# EAGLE library part PSOC5LP (library kanzi)
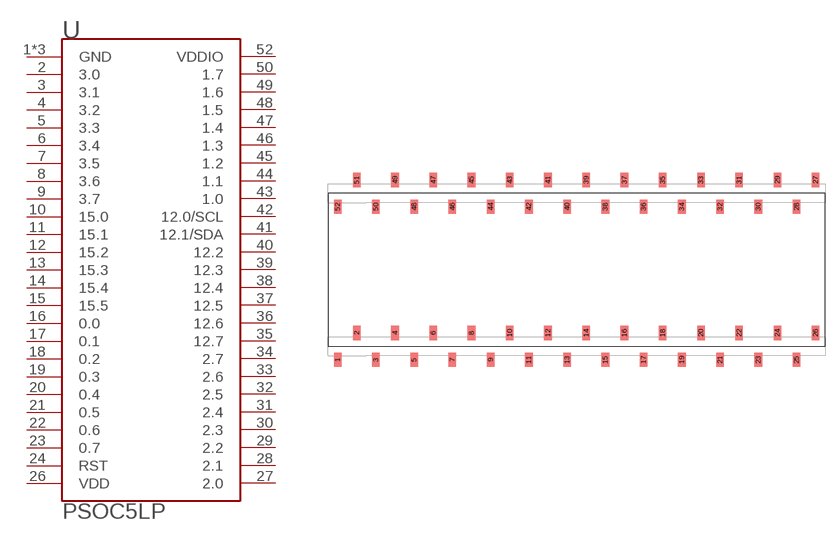
[diagram p1: symbol with the pads of PSOC5LP; footprint PSOC5LP]

Designator prefix -

## PSOC5LP  [PSOC5LP]
1  GND
2  3.0
3  3.1
4  3.2
5  3.3
6  3.4
7  3.5
8  3.6
9  3.7
10  15.0
11  15.1
12  15.2
13  15.3
14  15.4
15  15.5
16  0.0
17  0.1
18  0.2
19  0.3
20  0.4
21  0.5
22  0.6
23  0.7
24  RST
25  GND
26  VDD
27  2.0
28  2.1
29  2.2
30  2.3
31  2.4
32  2.5
33  2.6
34  2.7
35  12.7
36  12.6
37  12.5
38  12.4
39  12.3
40  12.2
41  12.1/SDA
42  12.0/SCL
43  1.0
44  1.1
45  1.2
46  1.3
47  1.4
48  1.5
49  1.6
50  1.7
51  GND
52  VDDIO

## Footprint PSOC5LP (pad centres in mm)
translated Allegro footprint
smd 1.02 x 1.905: 1 -31.75,-13.208; 2 -29.21,-9.652; 3 -26.67,-13.208; 4 -24.13,-9.652; 5 -21.59,-13.208; 6 -19.05,-9.652; 7 -16.51,-13.208; 8 -13.97,-9.652; 9 -11.43,-13.208; 10 -8.89,-9.652; 11 -6.35,-13.208; 12 -3.81,-9.652; 13 -1.27,-13.208; 14 1.27,-9.652; 15 3.81,-13.208; 16 6.35,-9.652; 17 8.89,-13.208; 18 11.43,-9.652; 19 13.97,-13.208; 20 16.51,-9.652; 21 19.05,-13.208; 22 21.59,-9.652; 23 24.13,-13.208; 24 26.67,-9.652; 25 29.21,-13.208; 26 31.75,-9.652; 27 31.75,10.668; 28 29.21,7.112; 29 26.67,10.668; 30 24.13,7.112; 31 21.59,10.668; 32 19.05,7.112; 33 16.51,10.668; 34 13.97,7.112; 35 11.43,10.668; 36 8.89,7.112; 37 6.35,10.668; 38 3.81,7.112; 39 1.27,10.668; 40 -1.27,7.112; 41 -3.81,10.668; 42 -6.35,7.112; 43 -8.89,10.668; 44 -11.43,7.112; 45 -13.97,10.668; 46 -16.51,7.112; 47 -19.05,10.668; 48 -21.59,7.112; 49 -24.13,10.668; 50 -26.67,7.112; 51 -29.21,10.668; 52 -31.75,7.112